# Altium schematic symbol library PQ2614BHA-150K.SchLib: 1 symbol
Pins are listed as number, name and electrical type; pins without a type are passive.

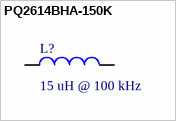
[diagram p0: symbol PQ2614BHA-150K]

## PQ2614BHA-150K
designator L?  Inductance: 15 uH @ 100 kHz  (hidden comment: PQ2614BHA-150K)
FIXED IND 15UH 30A 1.9 MOHM SMD; Manufacturer: Bourns; Saturation Current: 14 A; Tolerance: 10%; Supplier 1: Digi-Key; Manufacturer Part Number: PQ2614BHA-150K; RoHS: No; Category: Fixed Inductors; Stock 1: 579; Supplier Part Number 1: PQ2614BHA-150K-ND; Current Rating: 30 A; DCR: 1.9 mOhm
footprint PQ2614BHA-150K (Inductor 15uF)
pins: 1, 2